# Altium footprint library PCB - TRIMMER CAP - KNOWLES JZ.PcbLib: 1 footprints
Each footprint in its own frame and in the unit in brackets; x right, y up, seen from the top. Pads: shape width x height; smd on the part's side, far side on the other; paste and mask are expansions set on the pad; w line width, h text height; cw(c..) or ccw(c..) is an arc to the next point about the centre after c.
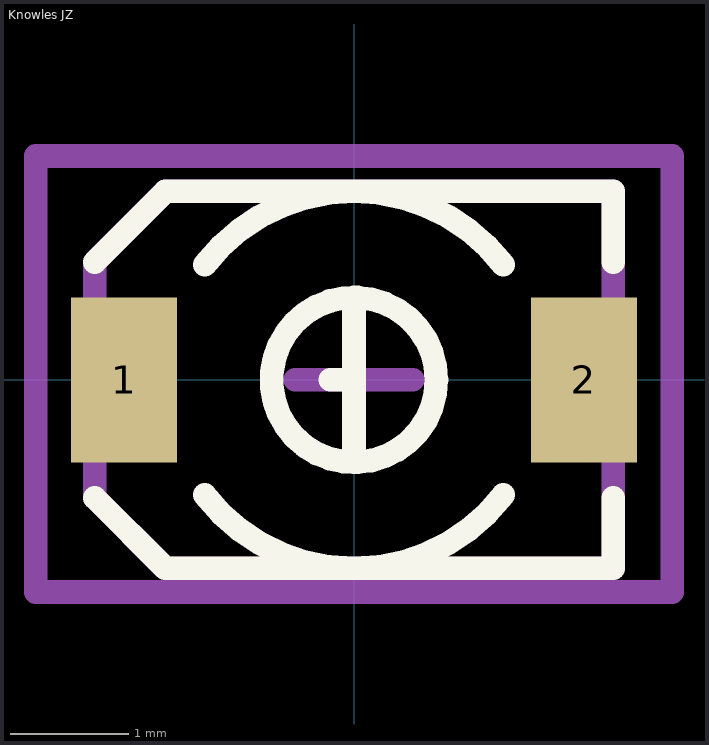
[diagram p0: the footprint, top view; thin cyan lines are the x and y axes]

## Knowles JZ [mm] "CAP TRIMMER"
height 1.45
pads (2):
  rect 0.9x1.4 smd: 1(-1.95,0) 2(1.95,0)
Top Overlay:
  circle w0.2: c0,0 r0.7
  lines w0.2: -2.2,-1 -1.6,-1.6 2.2,-1.6 2.2,-1 ; -2.2,1 -1.6,1.6 2.2,1.6 2.2,1 ; -1.268,-0.976 ccw(c0,0) 1.268,-0.976 ; -1.268,0.976 cw(c0,0) 1.268,0.976 ; -0.2,0 0,0 ; 0,-0.7 0,0.7
Top Assembly:
  lines w0.2: -0.5,0 0.5,0 ; 0,-0.5 0,0.5 ; -2.2,-1 -2.2,1 -1.6,1.6 2.2,1.6 2.2,-1.6 -1.6,-1.6 -2.2,-1
Top Courtyard (Mech15):
  lines w0.2: -2.7,-1.8 -2.7,1.9 2.7,1.9 2.7,-1.8 -2.7,-1.8
3D body "Knowles JZ.step": height 1.45, standoff -0.01, extent -2.25,-1.6 2.25,1.6